# Altium schematic symbol library Res_Yageo_RC0603FR-0768RL_eec.SchLib: 1 symbol
Pins are listed as number, name and electrical type; pins without a type are passive.

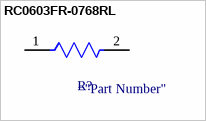
[diagram p0: symbol RC0603FR-0768RL]

## RC0603FR-0768RL
designator R?  (value not drawn)
pins: 1, 2